# Altium schematic symbol library 半导体.SCHLIB: 139 symbols (part 1 of 2)
Pins are listed as number, name and electrical type; pins without a type are passive.

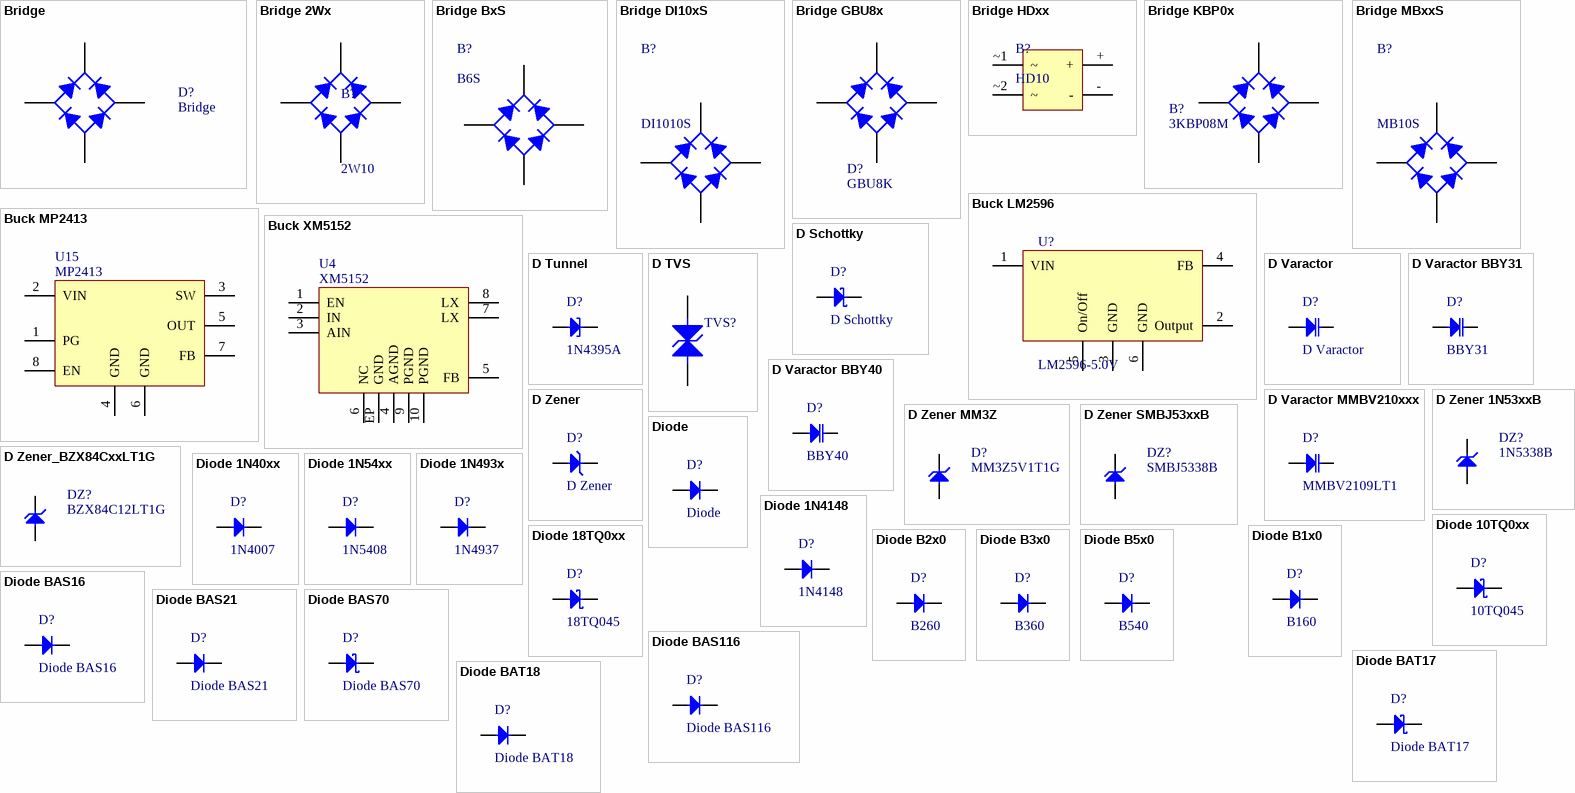
[diagram p0: symbols Bridge to Diode BAT18]

## Bridge
designator D?
通用桥; Published: 8-Jun-2000; LatestRevisionDate: 17-Jul-2002; LatestRevisionNote: Re-released for DXP Platform.; PackageReference: D-38; Publisher: Altium Limited
footprint BRIDGE-RB20 (针式整流桥)
simulation model BRIDGE (Spice Subcircuit)
footprint BRIDGE-[DB-1] (1A整流桥)
footprint BRIDGE-[GBU] (GBU8K整流桥)
footprint BRIDGE-[KBPM] (KBP整流桥)
footprint BRIDGE-[SDIP] (1A贴片整流桥)
footprint BRIDGE-[SOIC-4] (整流桥)
footprint BRIDGE-[BU] (整流桥 BU)
footprint BRIDGE-[DFM] (整流桥 DFM)
footprint BRIDGE-[GBL] (整流桥 GBL)
footprint BRIDGE-[GBPC-W] (整流桥 GBPC-W)
footprint BRIDGE-[GBPC1] (整流桥 GBPC1)
footprint BRIDGE-[GBPC] (整流桥 GBPC)
footprint BRIDGE-[GBU-4B] (整流桥 GBU-4B)
footprint BRIDGE-[GSIB-5S] (整流桥 GSIB-5S)
footprint BRIDGE-[KBL] (整流桥 KBL)
footprint BRIDGE-[KBU] (整流桥 KBU)
footprint BRIDGE-[PB] (整流桥 PB)
footprint BRIDGE-[WOG] (整流桥 WOG)
pins: +, -, ~1 ~, ~2 ~

## Bridge 2Wx
designator B?, comment 2W10
2A 50-1000V -55 ~150°C 整流桥
footprint BRIDGE-RB20 (Footprint not found)
pins: +, -, ~1 ~, ~2 ~

## Bridge BxS
designator B?, comment B6S
0.5A 100-1000V -55 ~150°C 整流桥
footprint BRIDGE-[SOIC-4] (整流桥)
pins: +, -, ~1 ~, ~2 ~

## Bridge DI10xS
designator B?, comment DI1010S
1A 50-1000V -55 ~150°C 整流桥
footprint BRIDGE-[SDIP] (1A贴片整流桥)
pins: +, -, ~1 ~, ~2 ~

## Bridge GBU8x
designator D?, comment GBU8K
8A、6A 50-800V -55 ~150°C 整流桥; Published: 8-Jun-2000; LatestRevisionDate: 17-Jul-2002; LatestRevisionNote: Re-released for DXP Platform.; PackageReference: D-38; Publisher: Altium Limited
footprint BRIDGE-[GBU] (GBU8K整流桥)
simulation model BRIDGE (Spice Subcircuit)
pins: +, -, ~1 ~, ~2 ~

## Bridge HDxx
designator B?, comment HD10
0.8A 100-1000V -55 ~175°C 整流桥
footprint BRIDGE-[SOIC-4] (整流桥)
pins: +, -, ~1 ~, ~2 ~

## Bridge KBP0x
designator B?, comment 3KBP08M
3A 50-800V -55 ~150°C 整流桥; Published: 8-Jun-2000; LatestRevisionDate: 17-Jul-2002; LatestRevisionNote: Re-released for DXP Platform.; PackageReference: D-38; Publisher: Altium Limited
footprint BRIDGE-[KBPM] (KBP整流桥)
simulation model BRIDGE (Spice Subcircuit)
pins: +, -, ~1 ~, ~2 ~

## Bridge MBxxS
designator B?, comment MB10S
0.5/0.8A 50-1000V -55 ~175°C 整流桥
footprint BRIDGE-[SOIC-4] (整流桥)
pins: +, -, ~1 ~, ~2 ~

## Buck LM2596
designator U?, comment LM2596-5.0V
3A降压稳压器
footprint TO263-5 (TO-263封装稳压集成电路)
pins: 1 VIN, 2 Output, 3 GND, 4 FB, 5 On/Off, 6 GND

## Buck MP2413
designator U15, comment MP2413
1.5A ADJ 2.5~5.5V -40~85°C 开关式降压转换器
footprint SOT23-8 (SSOP; 8 Leads; Body Width 1.6 mm; Pitch 0.65 mm)
pins: 1 PG, 2 VIN, 3 SW, 4 GND, 5 OUT, 6 GND, 7 FB, 8 EN

## Buck XM5152
designator U4, comment XM5152
1.5A ADJ 2.5~5.5V -40~85°C 开关式降压转换器
footprint SON50P300X300X80-10W3L (Footprint not found)
pins: 1 EN, 2 IN, 3 AIN, 4 AGND, 5 FB, 6 NC, 7 LX, 8 LX, 9 PGND, 10 PGND, EP GND

## D Schottky
designator D?
肖特基二极管; Published: 8-Jun-2000; LatestRevisionDate: 17-Jul-2002; LatestRevisionNote: Re-released for DXP Platform.; PackageReference: SMB; Publisher: Altium Limited; Code_JEDEC: DO-214-AA
footprint SMA [DO-214AC]
simulation model SKYDIODE (Diode)
signal-integrity model D Schottky
footprint SMB [DO-214AA]
footprint SMC [DO-214AB]
footprint DO-41 (玻璃封装插件稳压管)
footprint DO-201AD (1N5407 diode)
pins: 1 A, 2 K

## D Tunnel
designator D?, comment 1N4395A
隧道二极管; Published: 8-Jun-2000; LatestRevisionDate: 17-Jul-2002; LatestRevisionNote: Re-released for DXP Platform.; PackageDocument: Feb-2002; PackageReference: 3.2X1.6X1.1; Publisher: Altium Limited
footprint DO-17 (Footprint not found)
simulation model DTUNNEL1 (Spice Subcircuit)
signal-integrity model D Tunnel
pins: 1 A, 2 K

## D TVS
designator TVS?
瞬态电压抑制器
footprint SMA [DO-214AC]
pins: 1, 2

## D Varactor
designator D?
变容二极管; Note: Pin 2 is not connected and not drawn.; Published: 8-Jun-2000; LatestRevisionDate: 17-Jul-2002; LatestRevisionNote: Re-released for DXP Platform.; DatasheetDocument: Jan-1998; PackageReference: SOT23A; Publisher: Altium Limited; Code_JEDEC: SOT23; ComponentLink1Description: Manufacturer Link; ComponentLink1URL: http://www.zetex.com/
footprint SOT23-3 (SOT-23; 3 Leads; Body 3.0 x 2.5 mm, inc. leads (LxW max))
simulation model BBY31 (Diode)
signal-integrity model D Varactor
pins: 1 K, 3 A

## D Varactor BBY31
designator D?, comment BBY31
0.02A 30V 16.5~2pF 0.7Ω -55~125°C UHF变容二极管; PackageDocument: 1996; Note: Pin 2 is not connected and not drawn.; Published: 8-Jun-2000; LatestRevisionDate: 17-Jul-2002; LatestRevisionNote: Re-released for DXP Platform.; DatasheetDocument: Jan-1998; PackageReference: SOT23; Publisher: Altium Limited; ComponentLink1Description: Manufacturer Link; ComponentLink1URL: http://www.zetex.com/; ComponentLink2Description: Datasheet; ComponentLink2URL: www.zetex.com/3.0/pdf/BBY31.pdf
footprint SOT23-3 (SOT-23; 3 Leads; Body 3.0 x 2.5 mm, inc. leads (LxW max))
simulation model BBY31 (DIODE)
pins: 1 K, 3 A

## D Varactor BBY40
designator D?, comment BBY40
0.02A 30V 32~6pF 0.7Ω -55~125°C VHF变容二极管; PackageDocument: 1996; Note: Pin 2 is not connected and not drawn.; Published: 8-Jun-2000; LatestRevisionDate: 17-Jul-2002; LatestRevisionNote: Re-released for DXP Platform.; DatasheetDocument: Jan-1998; PackageReference: SOT23; Publisher: Altium Limited; ComponentLink1Description: Manufacturer Link; ComponentLink1URL: http://www.zetex.com/; ComponentLink2Description: Datasheet; ComponentLink2URL: www.zetex.com/3.0/pdf/BBY40.pdf
footprint SOT23-3 (SOT-23; 3 Leads; Body 3.0 x 2.5 mm, inc. leads (LxW max))
simulation model BBY40 (DIODE)
pins: 1 K, 3 A

## D Varactor MMBV210xxx
designator D?, comment MMBV2109LT1
0.2A 30V 36~6.1pF -55~155°C SOT23 变容二极管; PackageDocument: 1996; Note: Pin 2 is not connected and not drawn.; Published: 8-Jun-2000; LatestRevisionDate: 17-Jul-2002; LatestRevisionNote: Re-released for DXP Platform.; DatasheetDocument: Jan-1998; PackageReference: SOT23; Publisher: Altium Limited; ComponentLink1Description: Manufacturer Link; ComponentLink1URL: http://www.zetex.com/; ComponentLink2Description: Datasheet; ComponentLink2URL: www.zetex.com/3.0/pdf/BBY31.pdf
footprint SOT23-3 (SOT-23; 3 Leads; Body 3.0 x 2.5 mm, inc. leads (LxW max))
simulation model BBY31 (DIODE)
pins: 1 A, 3 K

## D Zener
designator D?
稳压二极管; Published: 8-Jun-2000; LatestRevisionDate: 17-Jul-2002; LatestRevisionNote: Re-released for DXP Platform.; PackageReference: DIODE-0.7; Publisher: Altium Limited
simulation model ZENER (Diode)
signal-integrity model D Zener
footprint DO-35 (Zener)
footprint DO-41G (玻璃封装插件稳压管)
footprint MiniMELF [SOD-80] (Metal Electrode Face (MELF) Diode; Body 3.5 x 1.7 mm (LxDia))
pins: 1 A, 2 K

## D Zener 1N53xxB
designator DZ?, comment 1N5338B
5W 3.3~200V -65 to +200°C 针式稳压管 【MOTOROLA】; Published: 8-Jun-2000; LatestRevisionDate: 17-Jul-2002; LatestRevisionNote: Re-released for DXP Platform.; PackageReference: DIODE-0.7; Publisher: Altium Limited
simulation model ZENER (Diode)
signal-integrity model D Zener
footprint DO-15 (二极管封装（针式）)
pins: 1 A, 2 K

## D Zener MM3Z
designator D?, comment MM3Z5V1T1G
0.2W 2.4V~75V -65 to +150°C贴片稳压管; Published: 8-Jun-2000; LatestRevisionDate: 17-Jul-2002; LatestRevisionNote: Re-released for DXP Platform.; PackageReference: DIODE-0.7; Publisher: Altium Limited
footprint SOD-323 (SOD-323/SC-76; 2 Leads; Body 1.7 x 1.3 mm, (LxW))
simulation model ZENER (Diode)
signal-integrity model D Zener
pins: 1 A, 2 K

## D Zener SMBJ53xxB
designator DZ?, comment SMBJ5338B
5W 3.3~200V -55 to +150°C 贴片稳压管; Published: 8-Jun-2000; LatestRevisionDate: 17-Jul-2002; LatestRevisionNote: Re-released for DXP Platform.; PackageReference: DIODE-0.7; Publisher: Altium Limited
simulation model ZENER (Diode)
signal-integrity model D Zener
footprint SMB [DO-214AA] (DO-214-AC/SMA; 2 C-Bend Leads; Body 5.3 x 2.6 mm, inc. leads (LxW))
pins: 1 A, 2 K

## D Zener_BZX84CxxLT1G
designator DZ?, comment BZX84C12LT1G
0.225W 2.4-75V -65 ~ 150°C 贴片稳压管; Published: 8-Jun-2000; LatestRevisionDate: 17-Jul-2002; LatestRevisionNote: Re-released for DXP Platform.; PackageReference: DIODE-0.7; Publisher: Altium Limited
simulation model ZENER (Diode)
signal-integrity model D Zener
footprint SOT-23 (SOT-23; 3 Leads; Body 3.0 x 2.5 mm, inc. leads (LxW max))
pins: 1 A, 2 K

## Diode
designator D?
二极管; Published: 8-Jun-2000; LatestRevisionDate: 17-Jul-2002; LatestRevisionNote: Re-released for DXP Platform.; PackageDocument: Sep-1996; PackageReference: SMC; Publisher: Altium Limited; Code_JEDEC: DO-214-AB
footprint SMA [DO-214AC]
simulation model DIODE (Diode)
signal-integrity model Diode
footprint SMB [DO-214AA]
footprint SMC [DO-214AB]
footprint SOD123 (SOD-123; 2 Leads; Body 2.7 x 1.6 mm, (LxW))
footprint SOD523 (small packge diode)
footprint SOD-80C (贴片玻璃封装)
footprint SOD-123FL (SOD-123; 2 Leads; Body 2.7 x 1.6 mm, (LxW))
footprint SOD-323 (SOD-323/SC-76; 2 Leads; Body 1.7 x 1.3 mm, (LxW))
footprint DO-35 (Zener)
footprint DO-41 (玻璃封装插件稳压管)
footprint DO-41G (玻璃封装插件稳压管)
footprint DO-201AD (1N5407 diode)
footprint MiniMELF [SOD-80] (Metal Electrode Face (MELF) Diode; Body 3.5 x 1.7 mm (LxDia))
footprint SMA flat (SMA FLAT 二极管)
pins: 1 A, 2 K

## Diode 1N40xx
designator D?, comment 1N4007
1A 50-1000V -55 ~155°C 通用整流管; Published: 8-Jun-2000; LatestRevisionDate: 17-Jul-2002; LatestRevisionNote: Re-released for DXP Platform.; DatasheetDocument: 1998; PackageDocument: Aug-1999; PackageReference: DO-41; Publisher: Altium Limited; Code_JEDEC: DO-204-AL; ComponentLink1Description: Manufacturer Link; ComponentLink1URL: http://www.fairchildsemi.com/; ComponentLink2Description: Datasheet; ComponentLink2URL: http://www.fairchildsemi.com/ds/1N%2F1N4001.pdf
footprint DO-41 (Diode, Axial; Body 5.2 x 2.7 mm (LxDia. max), Lead Dia. 0.86 mm (max))
simulation model 1N4007 (DIODE)
signal-integrity model 1N4007
pins: 1 A, 2 K

## Diode 1N54xx
designator D?, comment 1N5408
3A  50-1000V -65 ~150°C 通用整流管; Published: 8-Jun-2000; LatestRevisionDate: 17-Jul-2002; LatestRevisionNote: Re-released for DXP Platform.; DatasheetDocument: Aug-1984; PackageReference: DO-201AD; Publisher: Altium Limited; ComponentLink1Description: Manufacturer Link; ComponentLink1URL: http://www.irf.com/
footprint DO-201AD (Diode, Axial; Body 9.5 x 5.3 mm (LxDia. max), Lead Dia. 1.32 mm (max))
simulation model 1N5408 (DIODE)
signal-integrity model 1N5408
pins: 1 A, 2 K

## Diode 1N493x
designator D?, comment 1N4937
1A 50~600V -65 - 150°C 快恢复二极管; Published: 8-Jun-2000; LatestRevisionDate: 17-Jul-2002; LatestRevisionNote: Re-released for DXP Platform.; DatasheetDocument: 1999; PackageDocument: Aug-1999; PackageReference: DO-41; Publisher: Altium Limited; Code_JEDEC: DO-204-AL; ComponentLink1Description: Manufacturer Link; ComponentLink1URL: http://www.fairchildsemi.com/; ComponentLink2Description: Datasheet; ComponentLink2URL: http://www.fairchildsemi.com/ds/1N%2F1N4934.pdf
footprint DO-41 (Diode, Axial; Body 5.2 x 2.7 mm (LxDia. max), Lead Dia. 0.86 mm (max))
simulation model 1N4934 (DIODE)
signal-integrity model 1N4934
pins: 1 A, 2 K

## Diode 1N4148
designator D?, comment 1N4148
0.3A 75V -65 ~200°C 高速二极管 [Vishay]; Published: 8-Jun-2000; LatestRevisionDate: 17-Jul-2002; LatestRevisionNote: Re-released for DXP Platform.; DatasheetDocument: 1997; PackageReference: DO-35; Publisher: Altium Limited; Code_JEDEC: DO-204-AH; ComponentLink1Description: Manufacturer Link; ComponentLink1URL: http://www.fairchildsemi.com/; ComponentLink2Description: Datasheet; ComponentLink2URL: http://www.fairchildsemi.com/ds/1N%2F1N4148.pdf
footprint DO-35 (Diode, Axial; Body 3.8 x 1.9 mm (LxDia. max), Lead Dia. 0.53 mm (max))
simulation model 1N4148 (DIODE)
signal-integrity model 1N4148
pins: 1 A, 2 K

## Diode 10TQ0xx
designator D?, comment 10TQ045
10A  35/45V -55 ~175°C 贴片肖特基整流管; Note: Terminal 2 is the TAB and is electrically connected to the cathode; Published: 8-Jun-2000; LatestRevisionDate: 17-Jul-2002; LatestRevisionNote: Re-released for DXP Platform.; DatasheetDocument: PD-2.057B; PackageDocument: Feb-1998; PackageReference: TO-220AC; Publisher: Altium Limited; ComponentLink1Description: Manufacturer Link; ComponentLink1URL: http://www.irf.com/; ComponentLink2Description: Datasheet; ComponentLink2URL: http://www.irf.com/product-info/datasheets/data/10tq.pdf
footprint TO-220AC (TO, Thru-Hole, Vertical, Heatsink Mounted; 3 In-Line Leads (1 Absent); Pitch 2.54 mm)
simulation model 10TQ045 (DIODE)
pins: 1 K, 3 A

## Diode 18TQ0xx
designator D?, comment 18TQ045
18A  35-50V -55 ~175°C 贴片肖特基整流管; Note: Terminal 2 is the TAB and is electrically connected to the cathode; Published: 8-Jun-2000; LatestRevisionDate: 17-Jul-2002; LatestRevisionNote: Re-released for DXP Platform.; DatasheetDocument: Dec-1997; PackageDocument: Feb-1998; PackageReference: TO-220AC; Publisher: Altium Limited; ComponentLink1Description: Manufacturer Link; ComponentLink1URL: http://www.irf.com/; ComponentLink2Description: Datasheet; ComponentLink2URL: http://www.irf.com/product-info/datasheets/data/18tq.pdf
footprint TO-220AC (TO, Thru-Hole, Vertical, Heatsink Mounted; 3 In-Line Leads (1 Absent); Pitch 2.54 mm)
simulation model 18TQ045 (DIODE)
pins: 1 K, 3 A

## Diode B1x0
designator D?, comment B160
1A  20-60V -55 ~125°C 贴片肖特基整流管; Published: 8-Jun-2000; LatestRevisionDate: 17-Jul-2002; LatestRevisionNote: Re-released for DXP Platform.; PackageDocument: Sep-1996; PackageReference: SMC; Publisher: Altium Limited; Code_JEDEC: DO-214-AB
footprint SMA [DO-214AC] (B320AB-B340AB 3A DIODE)
footprint SMC [DO-214AB]
footprint SMB [DO-214AA]
pins: 1 A, 2 K

## Diode B2x0
designator D?, comment B260
2A  20-60V -55 ~125°C 贴片肖特基整流管; Published: 8-Jun-2000; LatestRevisionDate: 17-Jul-2002; LatestRevisionNote: Re-released for DXP Platform.; PackageDocument: Sep-1996; PackageReference: SMC; Publisher: Altium Limited; Code_JEDEC: DO-214-AB
footprint SMA [DO-214AC] (B320AB-B340AB 3A DIODE)
footprint SMC [DO-214AB]
footprint SMB [DO-214AA]
pins: 1 A, 2 K

## Diode B3x0
designator D?, comment B360
3A  20-60V -55 ~125°C 贴片肖特基整流管; Published: 8-Jun-2000; LatestRevisionDate: 17-Jul-2002; LatestRevisionNote: Re-released for DXP Platform.; PackageDocument: Sep-1996; PackageReference: SMC; Publisher: Altium Limited; Code_JEDEC: DO-214-AB
footprint SMA [DO-214AC] (B320AB-B340AB 3A DIODE)
footprint SMC [DO-214AB]
footprint SMB [DO-214AA]
pins: 1 A, 2 K

## Diode B5x0
designator D?, comment B540
5A  20-60V -55 ~125°C 贴片肖特基整流管; Published: 8-Jun-2000; LatestRevisionDate: 17-Jul-2002; LatestRevisionNote: Re-released for DXP Platform.; PackageDocument: Sep-1996; PackageReference: SMC; Publisher: Altium Limited; Code_JEDEC: DO-214-AB
footprint SMA [DO-214AC]
footprint SMB [DO-214AA]
footprint SMC [DO-214AB]
pins: 1 A, 2 K

## Diode BAS16
designator D?
0.215A  75V DC 1.5pF -65 +150 °C 贴片高速二极管; Note: Pin 2 is not connected and not drawn.; Published: 21-Mar-2003; DatasheetDocument: Oct-1999; PackageDocument: Sep-2001; PackageReference: SOT-23; Publisher: Altium Limited; ComponentLink1Description: Manufacturer Link; ComponentLink1URL: http://www.infineon.com/; ComponentLink2Description: Datasheet; ComponentLink2URL: http://www.infineon.com/upload/Document/cmc_upload/documents/012/5331/bas16series.pdf
footprint SOT23-3 (Footprint not found)
simulation model BAS16 (SUBCKT)
pins: 1 A, 3 K

## Diode BAS21
designator D?
0.2A  200V -65 +150 °C 贴片通用二极管; Note: Pin 2 is not connected and not drawn.; Published: 21-Mar-2003; DatasheetDocument: Oct-1999; PackageDocument: Sep-2001; PackageReference: SOT-23; Publisher: Altium Limited; ComponentLink1Description: Manufacturer Link; ComponentLink1URL: http://www.infineon.com/; ComponentLink2Description: Datasheet; ComponentLink2URL: http://www.infineon.com/upload/Document/cmc_upload/documents/080/812/bas21series.pdf
footprint SOT-23 (SOT-23; 3 Leads; Body 3.0 x 2.6 mm, inc. leads (LxW max))
simulation model BAS21 (DIODE)
pins: 1 A, 3 K

## Diode BAS70
designator D?
0.07A  70V -65 +150 °C 贴片肖特基双二极管; Note: Pin 2 is not connected and not drawn.; Published: 21-Mar-2003; DatasheetDocument: Oct-1999; PackageDocument: Sep-2001; PackageReference: SOT-23; Publisher: Altium Limited; ComponentLink1Description: Manufacturer Link; ComponentLink1URL: http://www.infineon.com/; ComponentLink2Description: Datasheet; ComponentLink2URL: http://www.infineon.com/upload/Document/cmc_upload/documents/009/382/bas40_bas140series_1.pdf
footprint SOT-23 (SOT-23; 3 Leads; Body 3.0 x 2.6 mm, inc. leads (LxW max))
simulation model BAS70 (DIODE)
pins: 1 A, 3 K

## Diode BAS116
designator D?
0.21A 75V 2pF -65 +150 °C 低泄漏二极管; Note: Pin 2 is not connected and not drawn.; Published: 21-Mar-2003; DatasheetDocument: Oct-1999; PackageDocument: Sep-2001; PackageReference: SOT-23; Publisher: Altium Limited; ComponentLink1Description: Manufacturer Link; ComponentLink1URL: http://www.infineon.com/; ComponentLink2Description: Datasheet; ComponentLink2URL: http://www.infineon.com/upload/Document/cmc_upload/documents/080/656/bas116series.pdf
footprint SOT-23 (SOT-23; 3 Leads; Body 3.0 x 2.6 mm, inc. leads (LxW max))
simulation model BAS116 (DIODE)
pins: 1 A, 3 K

## Diode BAT17
designator D?
0.13A 4V 0.55PF 8Ω -55~155°C低损耗射频开关二极管; Note: Pin 2 is not connected and not drawn.; Published: 21-Mar-2003; DatasheetDocument: Oct-1999; PackageDocument: Sep-2001; PackageReference: SOT-23; Publisher: Altium Limited; ComponentLink1Description: Manufacturer Link; ComponentLink1URL: http://www.infineon.com/; ComponentLink2Description: Datasheet; ComponentLink2URL: http://www.infineon.com/upload/Document/cmc_upload/documents/009/363/bat17series.pdf
footprint SOT-23 (SOT-23; 3 Leads; Body 3.0 x 2.6 mm, inc. leads (LxW max))
simulation model D188 (DIODE)
pins: 1 A, 3 K

## Diode BAT18
designator D?
0.1A 35V 1PF 0.7Ω -55~125°C低损耗射频开关二极管; Note: Pin 2 is not connected and not drawn.; Published: 21-Mar-2003; DatasheetDocument: Oct-1999; PackageDocument: Sep-2001; PackageReference: SOT-23; Publisher: Altium Limited; ComponentLink1Description: Manufacturer Link; ComponentLink1URL: http://www.infineon.com/
footprint SOT-23 (SOT-23; 3 Leads; Body 3.0 x 2.6 mm, inc. leads (LxW max))
simulation model BAT18 (DIODE)
pins: 1 A, 3 K

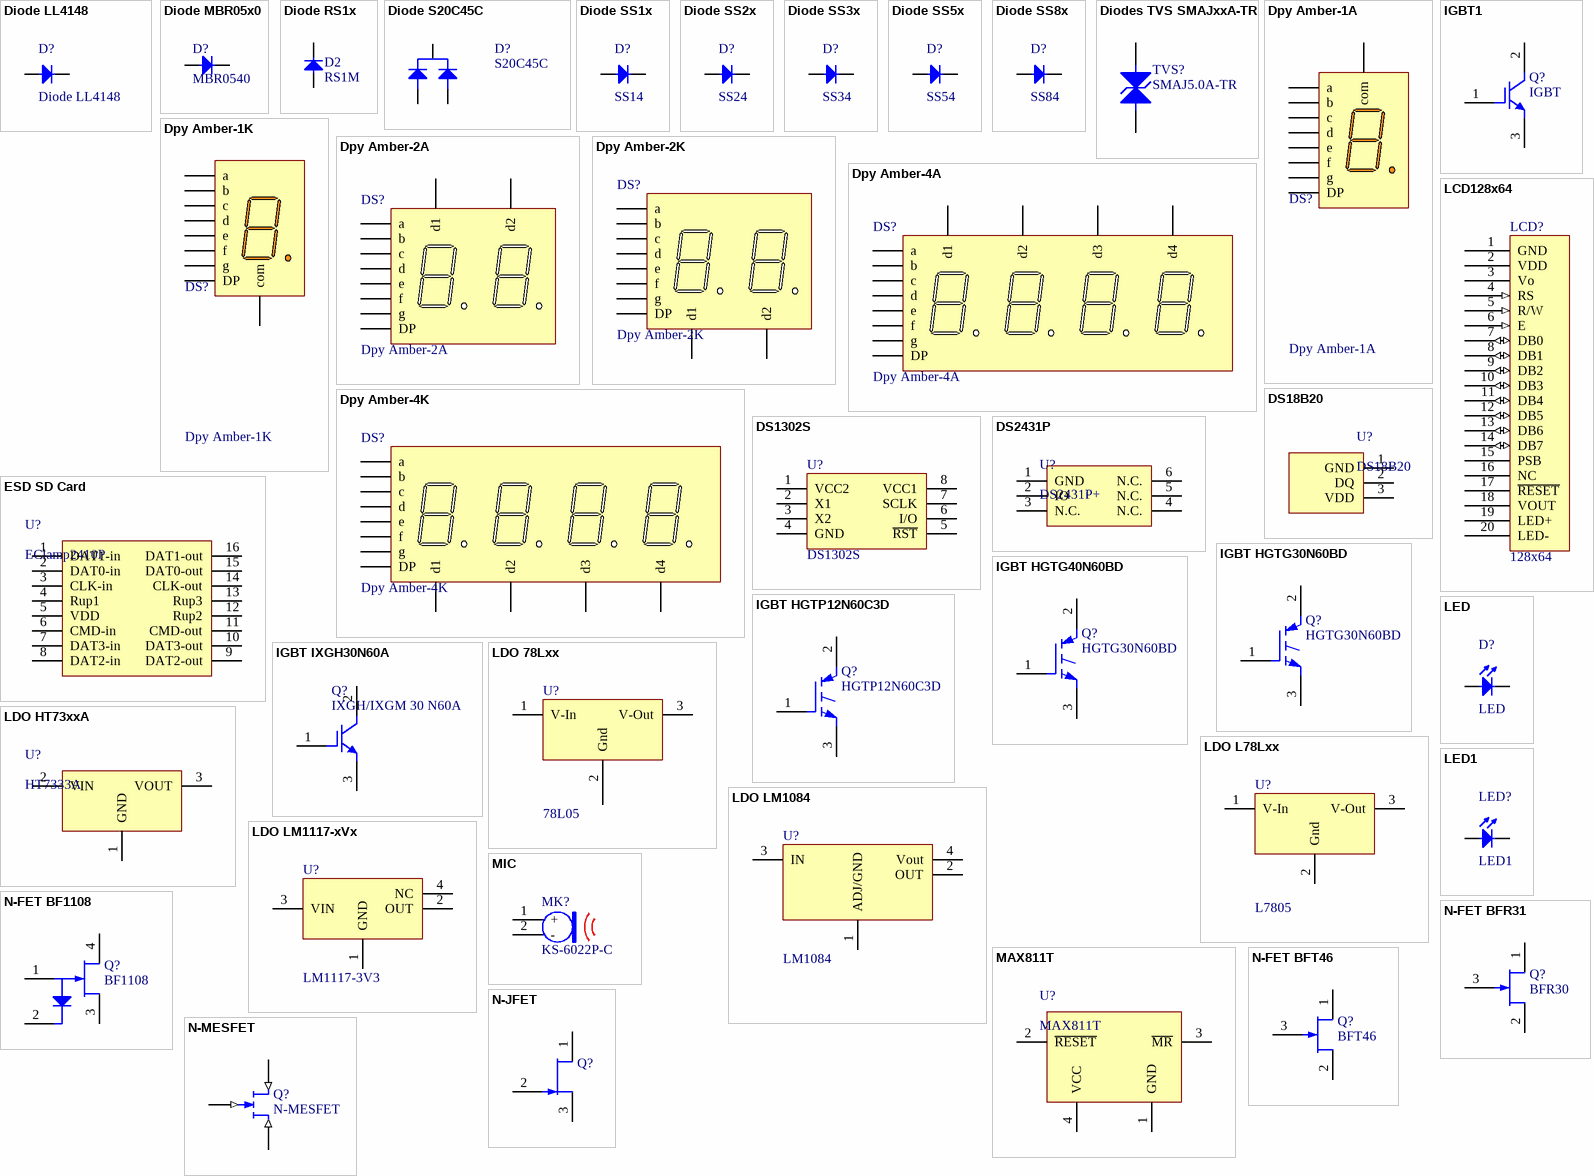
[diagram p1: symbols Diode LL4148 to N-MESFET]

## Diode LL4148
designator D?
75V 0.3A -65~175°C 贴片玻璃封装二极管; Published: 8-Jun-2000; LatestRevisionDate: 17-Jul-2002; LatestRevisionNote: Re-released for DXP Platform.; DatasheetDocument: 1997; PackageReference: DO-35; Publisher: Altium Limited; Code_JEDEC: DO-204-AH; ComponentLink1Description: Manufacturer Link; ComponentLink1URL: http://www.fairchildsemi.com/; ComponentLink2Description: Datasheet; ComponentLink2URL: http://www.fairchildsemi.com/ds/1N%2F1N4148.pdf
simulation model 1N4148 (DIODE)
signal-integrity model 1N4148
footprint MiniMELF [SOD-80] (Metal Electrode Face (MELF) Diode; Body 3.5 x 1.7 mm (LxDia))
pins: 1 A, 2 K

## Diode MBR05x0
designator D?, comment MBR0540
0.5A  20-100V -55 +150°C 贴片肖特基整流管
footprint SOD123 (SOD-123; 2 Leads; Body 2.7 x 1.6 mm, (LxW))
pins: 1 A, 2 K

## Diode RS1x
designator D2, comment RS1M
1A 50~1000V -55 ~150°C 快恢复贴片二极管; Published: 8-Jun-2000; LatestRevisionDate: 17-Jul-2002; LatestRevisionNote: Re-released for DXP Platform.; PackageDocument: Sep-1996; PackageReference: SMC; Publisher: Altium Limited; Code_JEDEC: DO-214-AB
footprint SMA [DO-214AC] (B320AB-B340AB 3A DIODE)
simulation model DIODE (Diode)
signal-integrity model Diode
pins: 1 A, 2 K

## Diode S20C45C
designator D?, comment S20C45C
20A 肖特基整流管; Published: 17-Sep-2003; LatestRevisionDate: 12-Dec-2006; LatestRevisionNote: IPC-7351 Footprint Added.; DatasheetVersion: 4-Mar-2002; PackageVersion: May-1999; PackageReference: SOT23; Publisher: Altium Limited; PackageDescription: 3-Pin SOT-23 Package 0.95 mm Pitch, 2.3 mm Lead Span; ComponentLink1Description: Manufacturer Link; ComponentLink1URL: http://www.semiconductors.philips.com/; ComponentLink2Description: Datasheet; ComponentLink2URL: http://www.semiconductors.philips.com/acrobat/datasheets/BAT54_SERIES_4.pdf
simulation model BAT54S (SUBCKT)
footprint TO220V
pins: 1 A, 2 A, 3 K

## Diode SS1x
designator D?, comment SS14
1A  20-100V -55 ~125°C 贴片肖特基整流管; Published: 8-Jun-2000; LatestRevisionDate: 17-Jul-2002; LatestRevisionNote: Re-released for DXP Platform.; PackageDocument: Sep-1996; PackageReference: SMC; Publisher: Altium Limited; Code_JEDEC: DO-214-AB
footprint SMA [DO-214AC] (B320AB-B340AB 3A DIODE)
footprint SMC [DO-214AB]
footprint SMB [DO-214AA]
pins: 1 A, 2 K

## Diode SS2x
designator D?, comment SS24
2A  20-100V -55 ~125°C 贴片肖特基整流管; Published: 8-Jun-2000; LatestRevisionDate: 17-Jul-2002; LatestRevisionNote: Re-released for DXP Platform.; PackageDocument: Sep-1996; PackageReference: SMC; Publisher: Altium Limited; Code_JEDEC: DO-214-AB
footprint SMA [DO-214AC] (B320AB-B340AB 3A DIODE)
footprint SMC [DO-214AB]
footprint SMB [DO-214AA]
pins: 1 A, 2 K

## Diode SS3x
designator D?, comment SS34
3A  20-100V -55 ~125°C 贴片肖特基整流管; Published: 8-Jun-2000; LatestRevisionDate: 17-Jul-2002; LatestRevisionNote: Re-released for DXP Platform.; PackageDocument: Sep-1996; PackageReference: SMC; Publisher: Altium Limited; Code_JEDEC: DO-214-AB
footprint SMA [DO-214AC] (B320AB-B340AB 3A DIODE)
footprint SMC [DO-214AB]
footprint SMB [DO-214AA]
pins: 1 A, 2 K

## Diode SS5x
designator D?, comment SS54
5A  20-100V -55 ~150°C 贴片肖特基整流管; Published: 8-Jun-2000; LatestRevisionDate: 17-Jul-2002; LatestRevisionNote: Re-released for DXP Platform.; PackageDocument: Sep-1996; PackageReference: SMC; Publisher: Altium Limited; Code_JEDEC: DO-214-AB
footprint SMA [DO-214AC]
footprint SMB [DO-214AA]
footprint SMC [DO-214AB]
pins: 1 A, 2 K

## Diode SS8x
designator D?, comment SS84
8A  20-60V -55 ~150°C 贴片肖特基整流管; Published: 8-Jun-2000; LatestRevisionDate: 17-Jul-2002; LatestRevisionNote: Re-released for DXP Platform.; PackageDocument: Sep-1996; PackageReference: SMC; Publisher: Altium Limited; Code_JEDEC: DO-214-AB
footprint SMB [DO-214AA]
footprint SMC [DO-214AB]
pins: 1 A, 2 K

## Diodes TVS SMAJxxA-TR
designator TVS?, comment SMAJ5.0A-TR
3.3W 5~188V -65 ~175°C 瞬态电压抑制器
footprint SMA [DO-214AC]
pins: 1, 2

## Dpy Amber-1A
designator DS?
1位七段数码管(共阳); MinimumIntensity: 354 ucd; Note: IF = 5 mA; Colour: Orange; Note: Pins 1 and 6 are redundant Anodes.; Published: 8-Jun-2000; LatestRevisionDate: 17-Dec-2003; LatestRevisionNote: Schematic revised, PCB Footprint replaced.; DatasheetDocument: 19-Feb-2002; PackageDocument: 19-Feb-2002; PackageReference: LEDDIP-10; Publisher: Altium Limited; ComponentLink1Description: Manufacturer Link; ComponentLink1URL: http://www.agilent.com/
footprint 3191B (Footprint not found)
simulation model HDSP_A211 (SUBCKT)
footprint 1056A (1056 5018数码管)
footprint 0.56x1 (1位0.56寸数码管)
pins: a "Cathode", b "Cathode", c "Cathode", com "Anode", d "Cathode", dp DP "Cathode", e "Cathode", f "Cathode", g "Cathode"

## Dpy Amber-1K
designator DS?
1位七段数码管(共阴); MinimumIntensity: 354 ucd; Note: IF = 5 mA; Colour: Orange; Note: Pins 1 and 6 are redundant Anodes.; Published: 8-Jun-2000; LatestRevisionDate: 17-Dec-2003; LatestRevisionNote: Schematic revised, PCB Footprint replaced.; DatasheetDocument: 19-Feb-2002; PackageDocument: 19-Feb-2002; PackageReference: LEDDIP-10; Publisher: Altium Limited; ComponentLink1Description: Manufacturer Link; ComponentLink1URL: http://www.agilent.com/
footprint 3191B (Footprint not found)
simulation model HDSP_A211 (SUBCKT)
footprint 1056A (1056 5018数码管)
footprint 0.56x1 (1位0.56寸数码管)
pins: a "Cathode", b "Cathode", c "Cathode", com "Anode", d "Cathode", dp DP "Cathode", e "Cathode", f "Cathode", g "Cathode"

## Dpy Amber-2A
designator DS?
2位七段数码管(共阳); MinimumIntensity: 354 ucd; Note: IF = 5 mA; Colour: Orange; Note: Pins 1 and 6 are redundant Anodes.; Published: 8-Jun-2000; LatestRevisionDate: 17-Dec-2003; LatestRevisionNote: Schematic revised, PCB Footprint replaced.; DatasheetDocument: 19-Feb-2002; PackageDocument: 19-Feb-2002; PackageReference: LEDDIP-10; Publisher: Altium Limited; ComponentLink1Description: Manufacturer Link; ComponentLink1URL: http://www.agilent.com/
simulation model HDSP_A211 (SUBCKT)
footprint 1056AX2 (0.5寸 2位七段数码管)
pins: a "Cathode", b "Cathode", c "Cathode", com1 d1 "Anode", com2 d2 "Anode", d "Cathode", dp DP "Cathode", e "Cathode", f "Cathode", g "Cathode"

## Dpy Amber-2K
designator DS?
2位七段数码管(共阴); MinimumIntensity: 354 ucd; Note: IF = 5 mA; Colour: Orange; Note: Pins 1 and 6 are redundant Anodes.; Published: 8-Jun-2000; LatestRevisionDate: 17-Dec-2003; LatestRevisionNote: Schematic revised, PCB Footprint replaced.; DatasheetDocument: 19-Feb-2002; PackageDocument: 19-Feb-2002; PackageReference: LEDDIP-10; Publisher: Altium Limited; ComponentLink1Description: Manufacturer Link; ComponentLink1URL: http://www.agilent.com/
simulation model HDSP_A211 (SUBCKT)
footprint 1056AX2 (0.5寸 2位七段数码管)
pins: a "Cathode", b "Cathode", c "Cathode", com1 d1 "Anode", com2 d2 "Anode", d "Cathode", dp DP "Cathode", e "Cathode", f "Cathode", g "Cathode"

## Dpy Amber-4A
designator DS?
4位七段数码管(共阳); MinimumIntensity: 354 ucd; Note: IF = 5 mA; Colour: Orange; Note: Pins 1 and 6 are redundant Anodes.; Published: 8-Jun-2000; LatestRevisionDate: 17-Dec-2003; LatestRevisionNote: Schematic revised, PCB Footprint replaced.; DatasheetDocument: 19-Feb-2002; PackageDocument: 19-Feb-2002; PackageReference: LEDDIP-10; Publisher: Altium Limited; ComponentLink1Description: Manufacturer Link; ComponentLink1URL: http://www.agilent.com/
simulation model HDSP_A211 (SUBCKT)
footprint 0.36X4 (4位0.36寸数码管)
footprint 0.56X4 (4位0.56寸数码管)
footprint 4056A (4位数码管)
pins: a "Cathode", b "Cathode", c "Cathode", com1 d1 "Anode", com2 d2 "Anode", com3 d3 "Anode", com4 d4 "Anode", d "Cathode", dp DP "Cathode", e "Cathode", f "Cathode", g "Cathode"

## Dpy Amber-4K
designator DS?
4位七段数码管(共阴); MinimumIntensity: 354 ucd; Note: IF = 5 mA; Colour: Orange; Note: Pins 1 and 6 are redundant Anodes.; Published: 8-Jun-2000; LatestRevisionDate: 17-Dec-2003; LatestRevisionNote: Schematic revised, PCB Footprint replaced.; DatasheetDocument: 19-Feb-2002; PackageDocument: 19-Feb-2002; PackageReference: LEDDIP-10; Publisher: Altium Limited; ComponentLink1Description: Manufacturer Link; ComponentLink1URL: http://www.agilent.com/
simulation model HDSP_A211 (SUBCKT)
footprint 0.36X4 (4位0.36寸数码管)
footprint 0.56X4 (4位0.56寸数码管)
footprint 4056A (4位数码管)
pins: a "Cathode", b "Cathode", c "Cathode", com1 d1 "Anode", com2 d2 "Anode", com3 d3 "Anode", com4 d4 "Anode", d "Cathode", dp DP "Cathode", e "Cathode", f "Cathode", g "Cathode"

## DS18B20
designator U?
温度1总线传感器
footprint TO-92 (TO, Flat Index; 3 In-Line, Axial Leads; Body Dia. 4.6mm; Leads 0.41 x 0.39 mm (max))
pins: 1 GND, 2 DQ, 3 VDD

## DS1302S
designator U?
时钟芯片
footprint SOP127P780-8N (SOP, 8-Leads, Body 5.3x5.3mm, Pitch 1.27mm, IPC Medium Density)
pins: 1 VCC2, 2 X1, 3 X2, 4 GND, 5 ~{RST}, 6 I/O, 7 SCLK, 8 VCC1

## DS2431P
designator U?, comment DS2431P+
加密IC
footprint TSOP127P40X47-6 (Footprint not found)
pins: 1 GND "裸焊盘", 2 IO "裸焊盘", 3 N.C. "裸焊盘", 4 N.C. "裸焊盘", 5 N.C. "裸焊盘", 6 N.C. "裸焊盘"

## ESD SD Card
designator U?, comment EClamp2410P
Vrwm:5V Vin:12pF -40 ~ 85°C SD/TF卡ESD
footprint SLP4016P16 (Footprint not found)
pins: 1 DAT1-in, 2 DAT0-in, 3 CLK-in, 4 Rup1, 5 VDD, 6 CMD-in, 7 DAT3-in, 8 DAT2-in, 9 DAT2-out, 10 DAT3-out, 11 CMD-out, 12 Rup2, 13 Rup3, 14 CLK-out, 15 DAT0-out, 16 DAT1-out, EP hidden to GND

## IGBT1
designator Q?, comment IGBT
PNP Bipolar Junction Transistor; Published: 8-Jun-2000; LatestRevisionDate: 17-Jul-2002; LatestRevisionNote: Re-released for DXP Platform.; PackageReference: TO-264-AA; Publisher: Altium Limited; Code_JEDEC: TO-264-AA
footprint TO-247 (Footprint not found)
simulation model PIGBT (Spice Subcircuit)
pins: 1 G, 2 C, 3 E

## IGBT HGTG30N60BD
designator Q?, comment HGTG30N60BD
60A 600V -40 ~ 150°C IGBT; Published: 8-Jun-2000; LatestRevisionDate: 17-Jul-2002; LatestRevisionNote: Re-released for DXP Platform.; DatasheetDocument: PD-9.684A; PackageReference: TO-247; Publisher: Altium Limited; Code_JEDEC: TO-247-AC; ComponentLink1Description: Manufacturer Link; ComponentLink1URL: http://www.irf.com/
footprint TO-247 (SIP with Mounting Hole; 3 Leads; Body 20 x 15.6 x 5 mm (typ); Pitch 5.45 mm)
simulation model IRGPC40U (Spice Subcircuit)
pins: 1 G, 2 C, 3 E

## IGBT HGTG40N60BD
designator Q?, comment HGTG30N60BD
70A 600V -40 ~ 150°C IGBT; Published: 8-Jun-2000; LatestRevisionDate: 17-Jul-2002; LatestRevisionNote: Re-released for DXP Platform.; DatasheetDocument: PD-9.684A; PackageReference: TO-247; Publisher: Altium Limited; Code_JEDEC: TO-247-AC; ComponentLink1Description: Manufacturer Link; ComponentLink1URL: http://www.irf.com/
footprint TO-247 (SIP with Mounting Hole; 3 Leads; Body 20 x 15.6 x 5 mm (typ); Pitch 5.45 mm)
simulation model IRGPC40U (Spice Subcircuit)
pins: 1 G, 2 C, 3 E

## IGBT HGTP12N60C3D
designator Q?, comment HGTP12N60C3D
24A 600V -40 ~ 150°C IGBT; Published: 8-Jun-2000; LatestRevisionDate: 17-Jul-2002; LatestRevisionNote: Re-released for DXP Platform.; DatasheetDocument: PD-9.684A; PackageReference: TO-247; Publisher: Altium Limited; Code_JEDEC: TO-247-AC; ComponentLink1Description: Manufacturer Link; ComponentLink1URL: http://www.irf.com/
footprint TO-220AB (Footprint not found)
simulation model IRGPC40U (Spice Subcircuit)
footprint TO263A [D2PAK] (Footprint not found)
footprint TO263 [D2PAK] (Footprint not found)
pins: 1 G, 2 C, 3 E

## IGBT IXGH30N60A
designator Q?, comment IXGH/IXGM 30 N60A
50A 600V Vce:3V -40 ~ 150°C IGBT; Published: 8-Jun-2000; LatestRevisionDate: 17-Jul-2002; LatestRevisionNote: Re-released for DXP Platform.; DatasheetDocument: PD-9.684A; PackageReference: TO-247; Publisher: Altium Limited; Code_JEDEC: TO-247-AC; ComponentLink1Description: Manufacturer Link; ComponentLink1URL: http://www.irf.com/
footprint TO-247 (Footprint not found)
simulation model IRGPC40U (Spice Subcircuit)
pins: 1 G, 2 C, 3 E

## LCD128x64
designator LCD?, comment 128x64
128x64点字符液晶模块; Fitted: True
footprint HDR1X20
pins: 1 GND (power) "VSS - 0V", 2 VDD (power) "VDD - 5V", 3 Vo (hiz) "Input Voltage For LCD", 4 RS (in) "H = Data Signal, L = Instrunction Signal", 5 R/W (in) "H = Read Mode, L = Write Mode", 6 E (in) "Chip Enable (H, H->L)", 7 DB0 (io) "Chip Enable (H, H->L)", 8 DB1 (io) "Chip Enable (H, H->L)", 9 DB2 (io) "Chip Enable (H, H->L)", 10 DB3 (io) "Chip Enable (H, H->L)", 11 DB4 (io) "Chip Enable (H, H->L)", 12 DB5 (io) "Chip Enable (H, H->L)", 13 DB6 (io) "Chip Enable (H, H->L)", 14 DB7 (io) "Chip Enable (H, H->L)", 15 PSB, 16 NC, 17 ~{RESET}, 18 VOUT, 19 LED+ (power) "LED Backlight +", 20 LED- (power) "LED Backlight -"

## LDO 78Lxx
designator U?, comment 78L05
0.1A Vin:40V(max) Vout:5-24V -55 ~ 150°C LDO稳压器
footprint TO-92C (Footprint not found)
footprint SOT89 (SOT-89; Body 4.6 x 4.25 mm, inc. leads (LxW max))
pins: 1 V-In, 2 Gnd, 3 V-Out

## LDO HT73xxA
designator U?, comment HT7333A
1.5A Vin:12V(max) Vout:1.8-5V -40 ~ 85°C LDO稳压器
footprint SOT89 (SOT-89; Body 4.6 x 4.25 mm, inc. leads (LxW max))
footprint TO-92A
footprint TO-92B
pins: 1 GND, 2 VIN, 3 VOUT

## LDO L78Lxx
designator U?, comment L7805
1.5A Vin:40V(max) Vout:5-24V -55 ~ 150°C LDO稳压器
footprint TO220AB (Footprint not found)
footprint TO220FM (Footprint not found)
footprint TO220AC (Footprint not found)
footprint TO220 (Footprint not found)
footprint TO263 [D2PAK] (D2-PAK/TO-263-AB; 3 Leads (1 Cropped); Body 15.5 (inc. leads) x 10.5 mm (LxW max))
footprint TO263A [D2PAK] (Footprint not found)
pins: 1 V-In, 2 Gnd, 3 V-Out

## LDO LM1084
designator U?, comment LM1084
5A Vout:3.3/5/12/ADJ -40 ~ 125°C LDO稳压器; Fitted: True
footprint TO263 (D2-PACK SIP-G3/P2.54)
footprint TO220
pins: 1 ADJ/GND "Output", 2 OUT (power) "Output", 3 IN (power) "Input", 4 Vout

## LDO LM1117-xVx
designator U?, comment LM1117-3V3
0.8A Vout:1.8/2.5/2.85/3.3/5/ADJ -40 ~ 125°C LDO稳压器
footprint SOT223 (SOT-223/SC-73; 4 Leads; Body 6.7 x 7.3 mm, inc. leads (LxW max))
footprint TO220
footprint TO263 (Footprint not found)
pins: 1 GND, 2 OUT, 3 VIN, 4 NC

## LED
designator D?
针式LED; Published: 8-Jun-2000; LatestRevisionDate: 08-Jul-2005; LatestRevisionNote: Mech Layer 1 removed.; PackageReference: LED-0; Publisher: Altium Limited
footprint LED-R30-Green (Footprint not found)
simulation model LED0 (Diode)
footprint LED-R30 (3mm直径发光二极管)
footprint LED-R30-Red (Footprint not found)
footprint LED-R30-Yellow (Footprint not found)
footprint LED-R50 (5mm圆形发光LED封装)
footprint LED-R50-Green (Footprint not found)
footprint LED-R50-Red (Footprint not found)
footprint LED-R50-Yellow (Footprint not found)
pins: 1 A, 2 K

## LED1
designator LED?
贴片LED; Published: 8-Jun-2000; LatestRevisionDate: 08-Jul-2005; LatestRevisionNote: Mech Layer 1 removed.; PackageReference: LED-1; Publisher: Altium Limited
footprint LED0402 (贴片LED)
simulation model LED1 (Diode)
footprint LED0603 (0603 贴片LED)
footprint LED0805 (Footprint not found)
footprint LED1206 (Footprint not found)
footprint LED3528 (Footprint not found)
pins: 1 A, 2 K

## MAX811T
designator U?
复位集成电路
footprint SOT143 (SOT-143; 4 Leads; Body 3 x 2.5 mm, inc. leads (LxW max))
pins: 1 GND "裸焊盘", 2 ~{RESET} "裸焊盘", 3 ~{MR} "裸焊盘", 4 VCC "裸焊盘"

## MIC
designator MK?, comment KS-6022P-C
麦克风; Published: 24-Mar-1999; LatestRevisionDate: 17-Jul-2002; LatestRevisionNote: Re-released for DXP Platform.; PackageReference: PIN2; Publisher: Altium Limited
footprint MIC_KS-6022P-C (Footprint not found)
pins: 1 +, 2 -

## N-FET BF1108
designator Q?, comment BF1108
N-Channel FET; Published: 8-Jun-2000; LatestRevisionDate: 17-Jul-2002; LatestRevisionNote: Re-released for DXP Platform.; PackageReference: TO-254-AA; Publisher: Altium Limited; Code_JEDEC: TO-254-AA
simulation model NJFET
footprint SOT143 (Footprint not found)
pins: 1 G, 2 K, 3 S, 4 D

## N-FET BFR31
designator Q?, comment BFR30
N-Channel FET; Published: 8-Jun-2000; LatestRevisionDate: 17-Jul-2002; LatestRevisionNote: Re-released for DXP Platform.; PackageReference: TO-254-AA; Publisher: Altium Limited; Code_JEDEC: TO-254-AA
simulation model NJFET
footprint SOT-23 (SOT-23; 3 Leads; Body 3.0 x 2.5 mm, inc. leads (LxW max))
pins: 1 D, 2 S, 3 G

## N-FET BFT46
designator Q?, comment BFT46
N-Channel FET; Published: 8-Jun-2000; LatestRevisionDate: 17-Jul-2002; LatestRevisionNote: Re-released for DXP Platform.; PackageReference: TO-254-AA; Publisher: Altium Limited; Code_JEDEC: TO-254-AA
simulation model NJFET
footprint SOT-23 (SOT-23; 3 Leads; Body 3.0 x 2.5 mm, inc. leads (LxW max))
pins: 1 D, 2 S, 3 G

## N-JFET
designator Q?
N-Channel JFET; Published: 8-Jun-2000; LatestRevisionDate: 17-Jul-2002; LatestRevisionNote: Re-released for DXP Platform.; PackageReference: TO-254-AA; Publisher: Altium Limited; Code_JEDEC: TO-254-AA
simulation model NJFET
footprint sot502a
footprint ni-780s
footprint ni-780gs-2l
footprint NI-360S
footprint NI-360
pins: 1 D, 2 G, 3 S

## N-MESFET
designator Q?
N-Channel MESFET; Published: 8-Jun-2000; LatestRevisionDate: 17-Jul-2002; LatestRevisionNote: Re-released for DXP Platform.; PackageReference: TO-18; Publisher: Altium Limited; Code_JEDEC: TO-18
footprint TO-18 (Can; 3 Leads; Pin Circle Dia. 2.54 mm; Lead Dia. 0.48 mm (max))
simulation model NMESFET (MESFET-N)
pins: 1 D (in), 2 G (in), 3 S (in)

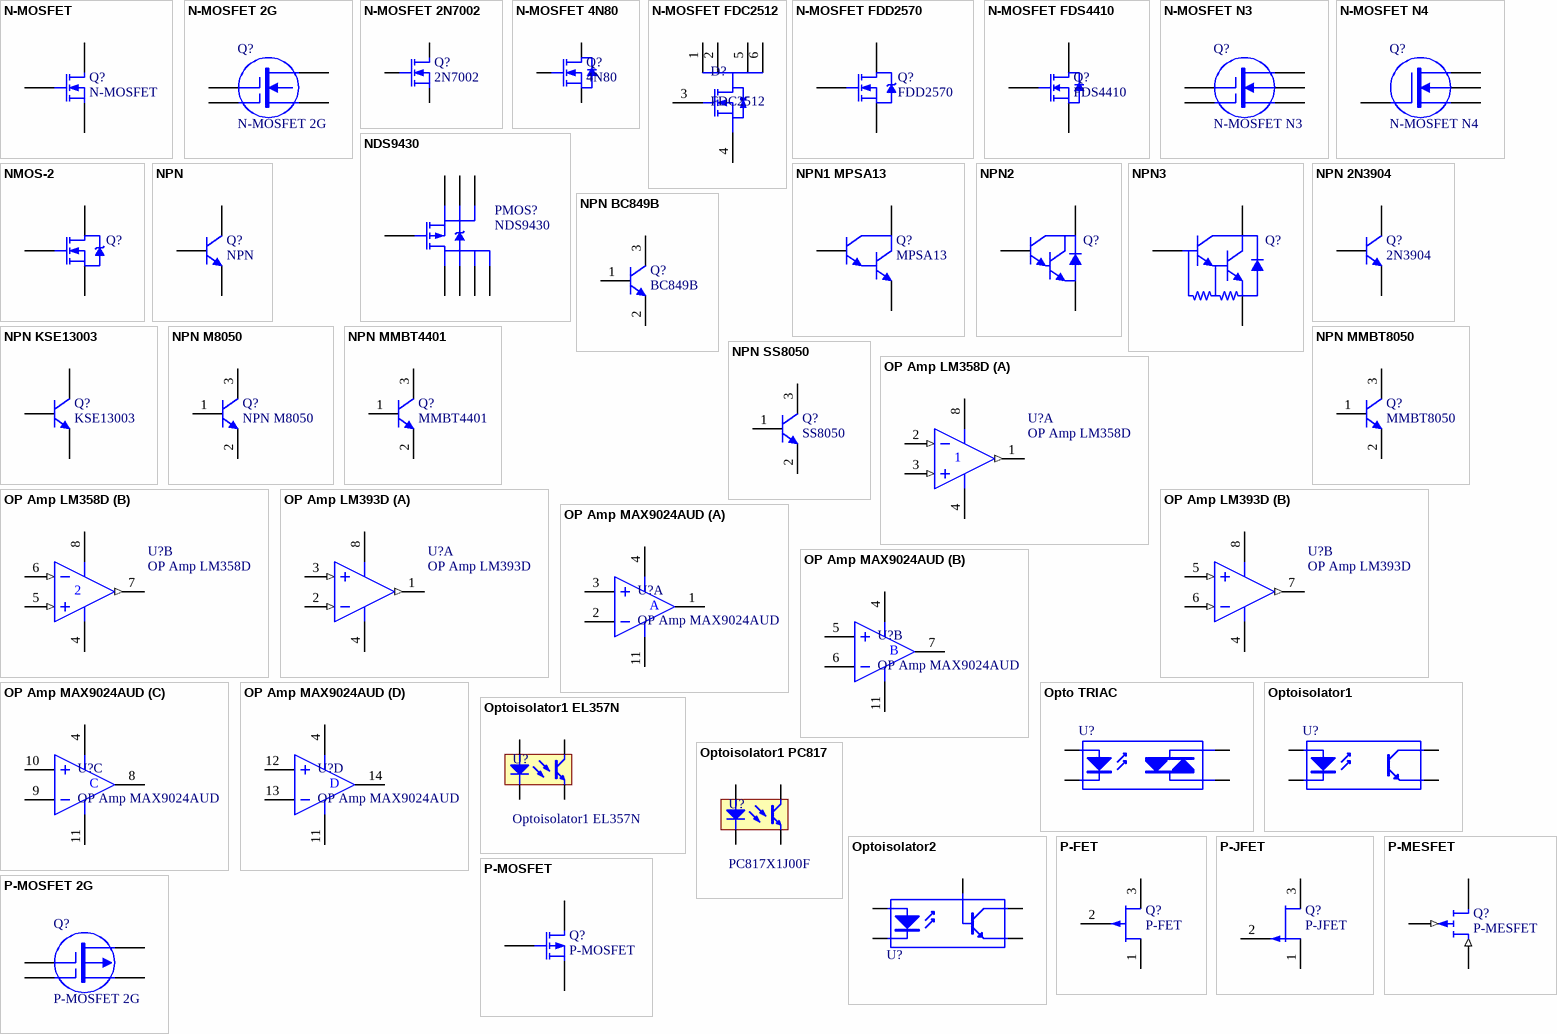
[diagram p2: symbols N-MOSFET to P-MOSFET 2G]

## N-MOSFET
designator Q?
N-Channel MOSFET; PackageDocument: 1995/1996; Published: 8-Jun-2000; LatestRevisionDate: 17-Jul-2002; LatestRevisionNote: Re-released for DXP Platform.; PackageReference: E3; Publisher: Altium Limited
footprint E3 (TO, Flat Index; 3 In-Line, Axial Leads; Body Dia. 4.6mm; Lead Dia. 0.5 mm (max))
simulation model NMOS (MOSFET-N)
footprint NI-360 (Footprint not found)
footprint NI-360S
footprint ni-780gs-2l
footprint ni-780s
footprint sot502a
pins: 1 D, 2 G, 3 S

## N-MOSFET 2G
designator Q?
Two-Gate, N-Channel MOSFET; Published: 24-Mar-1999; LatestRevisionDate: 17-Jul-2002; LatestRevisionNote: Re-released for DXP Platform.; PackageReference: T05A; Publisher: Altium Limited; Code_JEDEC: TS-001-AA
footprint T05A (TO, Thru-Hole, Vertical, Heatsink Mounted; 5 In-Line Leads; Pitch 1.70 mm)
pins: 1 G1, 2 G2, 3 D, 4 S

## N-MOSFET 2N7002
designator Q?, comment 2N7002
N-Channel MOSFET; PackageDocument: 1995/1996; Published: 8-Jun-2000; LatestRevisionDate: 17-Jul-2002; LatestRevisionNote: Re-released for DXP Platform.; PackageReference: E3; Publisher: Altium Limited
footprint SOT23-3 (SOT-23; 3 Leads; Body 3.0 x 2.5 mm, inc. leads (LxW max))
simulation model NMOS (MOSFET-N)
pins: 1 D, 2 G, 3 S

## N-MOSFET 4N80
designator Q?, comment 4N80
4N80 N-Channel MOSFET; PackageDocument: 1995/1996; Published: 8-Jun-2000; LatestRevisionDate: 17-Jul-2002; LatestRevisionNote: Re-released for DXP Platform.; PackageReference: E3; Publisher: Altium Limited
footprint TO-252 (晶体管,MOS管封装)
simulation model NMOS (MOSFET-N)
pins: 1 D, 2 G, 3 S

## N-MOSFET FDC2512
designator D?, comment FDC2512
footprint SOT23-6 (SOT-457/SC-74; 6 Leads; Body 3 x 3 mm, inc. leads (LxW max))
pins: 1 D, 2 D, 3 G, 4 S, 5 D, 6 D

## N-MOSFET FDD2570
designator Q?, comment FDD2570
150V 4.7A MOS; Note: Pin 2 is electrically connected to pin 4.; Published: 8-Jun-2000; LatestRevisionDate: 17-Jul-2002; LatestRevisionNote: Re-released for DXP Platform.; DatasheetDocument: PD-9.814; PackageReference: TO-220AB; Publisher: Altium Limited; Code_JEDEC: TO-220-AB; ComponentLink1Description: Manufacturer Link; ComponentLink1URL: http://www.irf.com/
footprint TO-252 (晶体管,MOS管封装)
pins: 1 G, 2 D, 3 S

## N-MOSFET FDS4410
designator Q?, comment FDS4410
P-Channel MOSFET; PackageDocument: 1995/1996; Published: 8-Jun-2000; LatestRevisionDate: 17-Jul-2002; LatestRevisionNote: Re-released for DXP Platform.; PackageReference: E3; Publisher: Altium Limited
footprint SOIC127P600-8CN (SOIC, 8-Leads, Body 4.9x3.9mm, Pitch 1.27mm, IPC Medium Density)
simulation model PMOS (MOSFET-P)
pins: 1 S, 2 S, 3 S, 4 G, 5 D, 6 D, 7 D, 8 D

## N-MOSFET N3
designator Q?
Two-Gate, N-Channel MOSFET, Externally Terminated Substrate; Published: 24-Mar-1999; LatestRevisionDate: 17-Jul-2002; LatestRevisionNote: Re-released for DXP Platform.; PackageReference: T05A; Publisher: Altium Limited; Code_JEDEC: TS-001-AA
footprint T05A (TO, Thru-Hole, Vertical, Heatsink Mounted; 5 In-Line Leads; Pitch 1.70 mm)
pins: 1 G1, 2 G2, 3 D, 4 U, 5 S

## N-MOSFET N4
designator Q?
N-Channel MOSFET, Externally Terminated Substrate; Published: 24-Mar-1999; LatestRevisionDate: 17-Jul-2002; LatestRevisionNote: Re-released for DXP Platform.; PackageReference: SOT-343; Publisher: Altium Limited; Code_JEDEC: SOT-343
footprint SOT-343 (SOT-343; 4 Leads; Body 2.2 x 2.2 mm, inc. leads (LxW max))
simulation model NMOS (MOSFET-N)
pins: 1 G, 2 D, 3 U, 4 S

## NDS9430
designator PMOS?
footprint SOIC127P600-8AM (SOIC, 8-Leads, Body 4.9x3.9mm, Pitch 1.27mm, IPC Low Density)
pins: 1 S, 2 S, 3 S, 4 G, 5 D, 6 D, 7 D, 8 D

## NMOS-2
designator Q?
N-Channel Power MOSFET; Note: Pin 2 is electrically connected to pin 4.; Published: 8-Jun-2000; LatestRevisionDate: 17-Jul-2002; LatestRevisionNote: Re-released for DXP Platform.; DatasheetDocument: PD-9.814; PackageReference: TO-220AB; Publisher: Altium Limited; Code_JEDEC: TO-220-AB; ComponentLink1Description: Manufacturer Link; ComponentLink1URL: http://www.irf.com/
footprint TO-220AB (TO, Thru-Hole, Vertical, Heatsink Mounted; 3 In-Line Leads; Pitch 2.54 mm)
simulation model IRF1010 (Spice Subcircuit)
pins: 1 G, 2 D, 3 S

## NPN
designator Q?
通用NPN 三极管; Published: 8-Jun-2000; LatestRevisionDate: 17-Jul-2002; LatestRevisionNote: Re-released for DXP Platform.; PackageReference: TO-226; Publisher: Altium Limited; Code_JEDEC: TO-226-AA
footprint TO-226 (TO, Flat Index; 3 In-Line, Axial Leads; Body Dia. 4.8mm; Leads 0.55 x 0.51 mm (max))
simulation model NPN
signal-integrity model NPN
footprint SOT223 (SOT-223/SC-73; 4 Leads; Body 6.7 x 7.3 mm, inc. leads (LxW max))
footprint TO-92 (晶体管)
footprint SOT-23 (SOT-23; 3 Leads; Body 3.0 x 2.5 mm, inc. leads (LxW max))
footprint SOT-32 (SOT-32 [TO-126]晶体管)
footprint NI-360
footprint sot502a
pins: 1 C, 2 B, 3 E

## NPN1 MPSA13
designator Q?, comment MPSA13
0.5A 30V 125MHz -55~150°C 达林顿三极管; PackageDocument: 1989; Published: 8-Jun-2000; LatestRevisionDate: 17-Jul-2002; LatestRevisionNote: Re-released for DXP Platform.; DatasheetDocument: 1989; PackageReference: TO-92; Publisher: Altium Limited; Code_JEDEC: TO-92
footprint TO-92 (TO, Flat Index; 3 In-Line, Axial Leads; Body Dia. 4.6mm; Leads 0.41 x 0.39 mm (max))
simulation model NPN1 (Spice Subcircuit)
signal-integrity model NPN
footprint SOT89 (Footprint not found)
pins: 1 E, 2 B, 3 C

## NPN2
designator Q?
NPN Darlington Bipolar Transistor; Published: 8-Jun-2000; LatestRevisionDate: 17-Jul-2002; LatestRevisionNote: Re-released for DXP Platform.; PackageReference: TO-226; Publisher: Altium Limited; Code_JEDEC: TO-226-AE
footprint TO-226 (TO, Flat Index; 3 In-Line, Axial Leads; Body Dia. 4.8mm; Leads 0.55 x 0.51 mm (max))
simulation model NPN2 (Spice Subcircuit)
signal-integrity model NPN
pins: 1 C, 2 B, 3 E

## NPN3
designator Q?
NPN Darlington Bipolar Transistor; Published: 8-Jun-2000; LatestRevisionDate: 17-Jul-2002; LatestRevisionNote: Re-released for DXP Platform.; PackageReference: TO-226; Publisher: Altium Limited; Code_JEDEC: TO-237-AA
footprint TO-226 (TO, Flat Index; 3 In-Line, Axial Leads; Body Dia. 4.8mm; Lead Dia. 0.56 mm (max))
simulation model NPN3 (Spice Subcircuit)
signal-integrity model NPN
pins: 1 C, 2 B, 3 E

## NPN 2N3904
designator Q?, comment 2N3904
三极管; Published: 8-Jun-2000; LatestRevisionDate: 15-Jan-2003; LatestRevisionNote: PCB Footprint 'BCY-W3/D4.7' replaced; DatasheetDocument: 1997; PackageDocument: Sep-1998; PackageReference: TO-92A; Publisher: Altium Limited; Code_JEDEC: TO-92A; ComponentLink1Description: Manufacturer Link; ComponentLink1URL: http://www.fairchildsemi.com/; ComponentLink2Description: Datasheet; ComponentLink2URL: http://www.fairchildsemi.com/ds/2N%2F2N3904.pdf
footprint TO-92A (TO, Flat Index; 3 In-Line, Axial Leads; Body Dia. 4.5mm; Leads 0.51 x 0.48 mm (max))
simulation model 2N3904 (NPN)
signal-integrity model 2N3904
pins: 1 E, 2 B, 3 C

## NPN BC849B
designator Q?, comment BC849B
NPN Bipolar Transistor; Published: 8-Jun-2000; LatestRevisionDate: 17-Jul-2002; LatestRevisionNote: Re-released for DXP Platform.; PackageReference: TO-226; Publisher: Altium Limited; Code_JEDEC: TO-226-AA
footprint SOT23-3 (SOT-23; 3 Leads; Body 3.0 x 2.5 mm, inc. leads (LxW max))
pins: 1 B, 2 E, 3 C

## NPN KSE13003
designator Q?, comment KSE13003
NPN 三极管; Published: 8-Jun-2000; LatestRevisionDate: 17-Jul-2002; LatestRevisionNote: Re-released for DXP Platform.; PackageReference: TO-226; Publisher: Altium Limited; Code_JEDEC: TO-226-AA
footprint TO-126 (SOT-32 [TO-126]晶体管)
pins: 1 E, 2 C, 3 B

## NPN M8050
designator Q?
0.8A 40V 150MHz -55~150°C NPN 三极管; Published: 8-Jun-2000; LatestRevisionDate: 17-Jul-2002; LatestRevisionNote: Re-released for DXP Platform.; PackageReference: TO-226; Publisher: Altium Limited; Code_JEDEC: TO-226-AA
footprint SOT23-3 (Footprint not found)
simulation model NPN
signal-integrity model NPN
pins: 1 B, 2 E, 3 C

## NPN MMBT4401
designator Q?, comment MMBT4401
NPN Bipolar Transistor; Published: 8-Jun-2000; LatestRevisionDate: 17-Jul-2002; LatestRevisionNote: Re-released for DXP Platform.; PackageReference: TO-226; Publisher: Altium Limited; Code_JEDEC: TO-226-AA
footprint SOT-23
simulation model NPN
signal-integrity model NPN
pins: 1 B, 2 E, 3 C

## NPN MMBT8050
designator Q?, comment MMBT8050
1.5A 25V 100MHz -55~150°C NPN 三极管; Published: 8-Jun-2000; LatestRevisionDate: 17-Jul-2002; LatestRevisionNote: Re-released for DXP Platform.; PackageReference: TO-226; Publisher: Altium Limited; Code_JEDEC: TO-226-AA
footprint SOT23-3 (Footprint not found)
simulation model NPN
signal-integrity model NPN
pins: 1 B, 2 E, 3 C

## NPN SS8050
designator Q?, comment SS8050
NPN SOT23 贴片三极管; Published: 8-Jun-2000; LatestRevisionDate: 17-Jul-2002; LatestRevisionNote: Re-released for DXP Platform.; PackageReference: TO-226; Publisher: Altium Limited; Code_JEDEC: TO-226-AA
footprint SOT23-3 (SOT-23; 3 Leads; Body 3.0 x 2.5 mm, inc. leads (LxW max))
pins: 1 B, 2 E, 3 C

## OP Amp LM358D
designator U?
Dual Low-Power Operational Amplifier; Published: 17-Jul-2002; LatestRevisionDate: 13-Apr-2006; LatestRevisionNote: IPC-7351 Footprint Added.; DatasheetVersion: 1988; PackageReference: 751-02; Publisher: Altium Limited; PackageDescription: 8-Pin Small Outline Integrated Circuit 1.27 mm Pitch; Code_JEDEC: MS-012-AA; Code_IPC: SOIC127P600-8; ComponentLink1Description: Manufacturer Link; ComponentLink1URL: http://www.onsemi.com/site/products/parametrics/0,4446,251,00.html; ComponentLink2Description: Datasheet; ComponentLink2URL: http://www.onsemi.com/pub/Collateral/LM358-D.PDF
footprint 751-02_N (SOIC, 8-Leads, Body 4.9x3.9mm, Pitch 1.27mm, IPC Medium Density)
footprint 751-02_L (SOIC, 8-Leads, Body 4.9x3.9mm, Pitch 1.27mm, IPC High Density)
footprint 751-02_M (SOIC, 8-Leads, Body 4.9x3.9mm, Pitch 1.27mm, IPC Low Density)
3D model 751-02 (8-Pin Small Outline Integrated Circuit 1.27 mm Pitch)
pins on every part: 4 V- (power), 8 V+ (power)
part A pins: 1 OUT (out), 2 IN- (in), 3 IN+ (in)
part B pins: 5 IN+ (in), 6 IN- (in), 7 OUT (out)

## OP Amp LM393D
designator U?
Dual Comparator; Published: 17-Jul-2002; LatestRevisionDate: 13-Apr-2006; LatestRevisionNote: IPC-7351 Footprint Added.; DatasheetVersion: 1988; PackageReference: 751-02; Publisher: Altium Limited; PackageDescription: 8-Pin Small Outline Integrated Circuit 1.27 mm Pitch; Code_JEDEC: MS-012-AA; Code_IPC: SOIC127P600-8; ComponentLink1Description: Manufacturer Link; ComponentLink1URL: http://www.onsemi.com/site/products/taxonomy/0,4438,133,00.html
footprint 751-02_N (SOIC, 8-Leads, Body 4.9x3.9mm, Pitch 1.27mm, IPC Medium Density)
footprint 751-02_L (SOIC, 8-Leads, Body 4.9x3.9mm, Pitch 1.27mm, IPC High Density)
footprint 751-02_M (SOIC, 8-Leads, Body 4.9x3.9mm, Pitch 1.27mm, IPC Low Density)
3D model 751-02 (8-Pin Small Outline Integrated Circuit 1.27 mm Pitch)
pins on every part: 4 GND (power), 8 V+ (power)
part A pins: 1 OUT (out), 2 IN- (in), 3 IN+ (in)
part B pins: 5 IN+ (in), 6 IN- (in), 7 OUT (out)

## OP Amp MAX9024AUD
designator U?
4mV 精密比较,2.8uA低功耗4比较器
footprint TSOP65P640-14AM (TSOP, 14-Leads, Body 5x4.4mm, Pitch 0.65mm, IPC Low Density)
footprint TSOP65P640-14AN (TSOP, 14-Leads, Body 5x4.4mm, Pitch 0.65mm, IPC Medium Density)
part A pins: 1 OUTA, 2 INA-, 3 INA+, 4 VDD, 11 VSS
part B pins: 4 VDD, 5 INB+, 6 INB-, 7 OUTB, 11 VSS
part C pins: 4 VDD, 8 OUTC, 9 INC-, 10 INC+, 11 VSS
part D pins: 4 VDD, 11 VSS, 12 IND+, 13 IND-, 14 OUTD
part A text: A
part B text: B
part C text: C
part D text: D

## Opto TRIAC
designator U?
Opto-Triac; Published: 24-Mar-1999; LatestRevisionDate: 17-Jul-2002; LatestRevisionNote: Re-released for DXP Platform.; PackageReference: NPSIP4A; Publisher: Altium Limited
footprint NPSIP4A (SIP; 4 Leads; Body 10 x 11.5 x 7.5 mm (typ); Pitch 2.54 mm)
pins: 1 A, 2 K, 3 A/K, 4 A/K

## Optoisolator1
designator U?
4-Pin Phototransistor Optocoupler; Published: 24-Mar-1999; LatestRevisionDate: 04-Mar-2005; LatestRevisionNote: Sch pins 3 & 4 Swapped.; DatasheetDocument: Nov-2003; PackageReference: DIP-4; Publisher: Altium Limited
footprint DIP-4 (DIP; 4 Leads; Row Spacing 7.62 mm; Pitch 2.54 mm)
pins: 1 A "Anode", 2 K "Cathode", 3 E "Emitter", 4 C "Collector"

## Optoisolator1 EL357N
designator U?
光电藕合器
footprint SOIC254P700-4 (SOIC, 4-Leads, Body 4.4 x 4.1mm, Pitch 2.54mm.)
pins: 1 A, 2 K, 3 E, 4 C

## Optoisolator1 PC817
designator U?, comment PC817X1J00F
夏普光电藕合器
footprint DIP-4 (DIP; 4 Leads; Row Spacing 7.62 mm; Pitch 2.54 mm)
pins: 1 A, 2 K, 3 E, 4 C

## Optoisolator2
designator U?
5 Pin Mini Flat Pack Optocoupler; Published: 24-Mar-1999; LatestRevisionDate: 04-Mar-2005; LatestRevisionNote: PCB Footprint replaced, Sch pins re-numbered.; DatasheetDocument: Apr-2004; PackageReference: SOP5(6); Publisher: Altium Limited
footprint SOP5(6) (Small Outline; 6 Leads (1 Absent); Body Width 4.4 mm; Pitch 1.27 mm)
simulation model OPTOISO (Spice Subcircuit)
pins: 1 A "Anode", 3 K "Cathode", 4 E "Emitter", 5 C "Collector", 6 B "Base"

## P-FET
designator Q?
P-Channel FET; Published: 8-Jun-2000; LatestRevisionDate: 17-Jul-2002; LatestRevisionNote: Re-released for DXP Platform.; PackageReference: TO-18A; Publisher: Altium Limited
footprint SOT-23 (SOT-23; 3 Leads; Body 3.0 x 2.5 mm, inc. leads (LxW max))
simulation model PJFET
footprint sot502a (RF 射频功率管)
pins: 1 D, 2 G, 3 S

## P-JFET
designator Q?
P-Channel JFET; Published: 8-Jun-2000; LatestRevisionDate: 17-Jul-2002; LatestRevisionNote: Re-released for DXP Platform.; PackageReference: TO-18A; Publisher: Altium Limited
footprint TO-18A (SC-89; 3 Flat Leads; Body 1.6 x 1.6 x 0.7 mm, inc leads (LxWxH typ))
simulation model PJFET
pins: 1 D, 2 G, 3 S

## P-MESFET
designator Q?
P-Channel MESFET; Published: 8-Jun-2000; LatestRevisionDate: 17-Jul-2002; LatestRevisionNote: Re-released for DXP Platform.; PackageReference: TO-18; Publisher: Altium Limited; Code_JEDEC: TO-18
footprint TO-18 (Can; 3 Leads; Pin Circle Dia. 2.54 mm; Lead Dia. 0.48 mm (max))
simulation model PMESFET (MESFET-P)
pins: 1 D (in), 2 G (in), 3 S

## P-MOSFET
designator Q?
P-Channel MOSFET; PackageDocument: 1995/1996; Published: 8-Jun-2000; LatestRevisionDate: 17-Jul-2002; LatestRevisionNote: Re-released for DXP Platform.; PackageReference: E3; Publisher: Altium Limited
footprint E3 (TO, Flat Index; 3 In-Line, Axial Leads; Body Dia. 4.6mm; Lead Dia. 0.5 mm (max))
simulation model PMOS (MOSFET-P)
pins: 1 D, 2 G, 3 S

## P-MOSFET 2G
designator Q?
Two-Gate, P-Channel MOSFET; Published: 24-Mar-1999; LatestRevisionDate: 17-Jul-2002; LatestRevisionNote: Re-released for DXP Platform.; PackageReference: SOT-143; Publisher: Altium Limited; Code_JEDEC: SOT-143
footprint SOT-143 (SOT-143; 4 Leads; Body 3 x 2.6 mm, inc. leads (LxW max))
pins: 1 G1, 2 G2, 3 D, 4 S

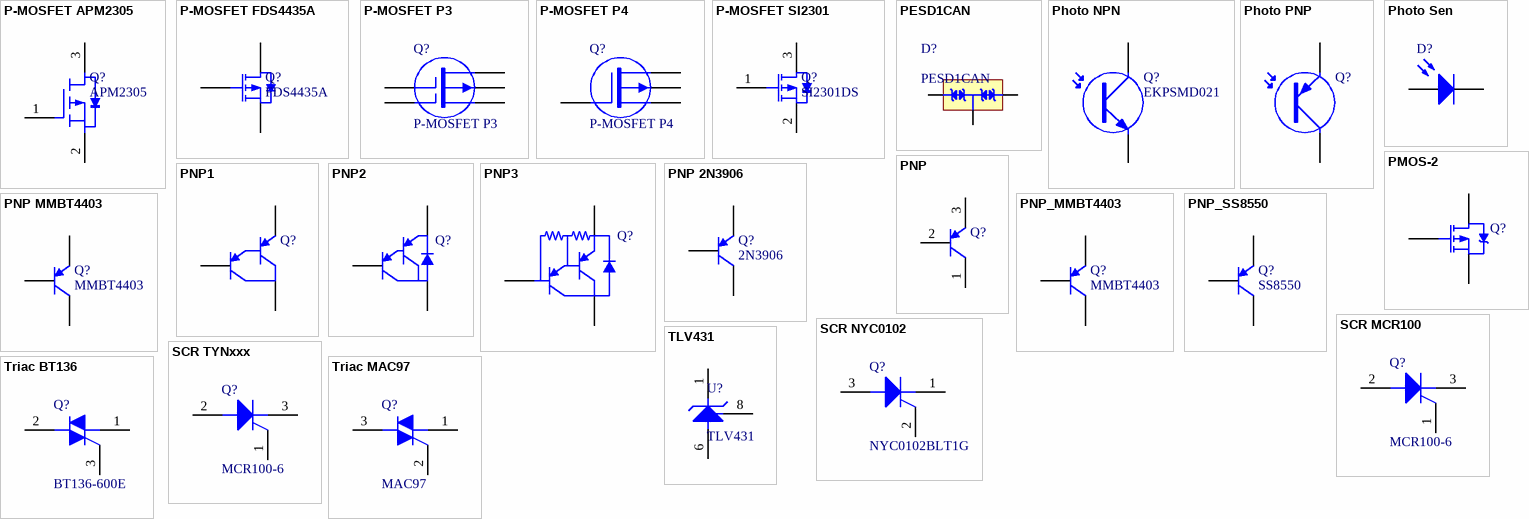
[diagram p3: symbols P-MOSFET APM2305 to Triac MAC97]